# Altium footprint library LS1C300B_176A_Msystem.PcbLib: 22 footprints (part 1 of 2)
Each footprint in its own frame and in the unit in brackets; x right, y up, seen from the top. Pads: shape width x height; smd on the part's side, far side on the other; paste and mask are expansions set on the pad; w line width, h text height; cw(c..) or ccw(c..) is an arc to the next point about the centre after c.
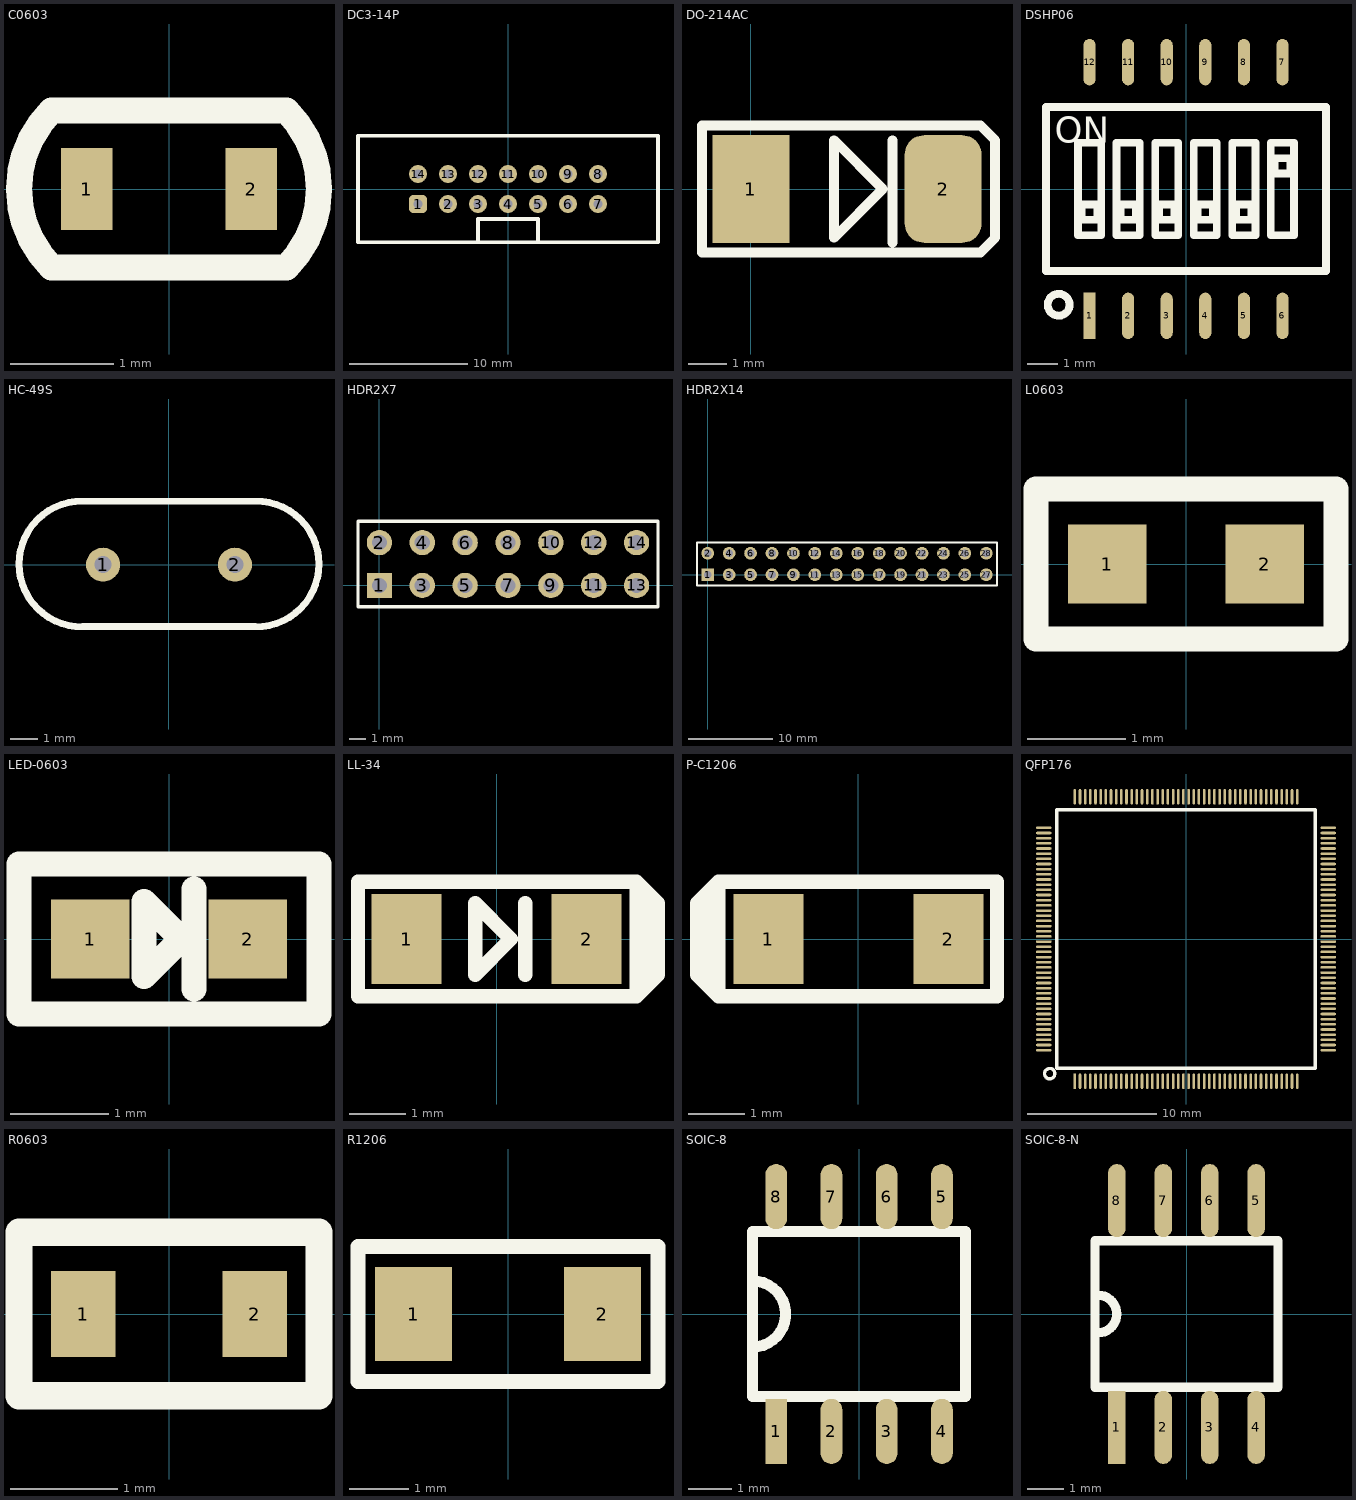
[diagram p0: the footprints below, top view; thin cyan lines are the x and y axes]

## C0603 [mm] "长1.6mm，宽0.8mm，高0.5mm"
height 0.5
pads (2):
  rect 0.5x0.8 smd: 1(-0.8,0) 2(0.8,0)
Top Overlay:
  lines w0.254: -1.143,-0.762 cw(c-0.381,0) -1.143,0.762 1.143,0.762 cw(c0.381,0) 1.143,-0.762 -1.143,-0.762
3D body: height 0.5, standoff 0, extent 0.508,-0.381 0.762,0.381
3D body: height 0.5, standoff 0, extent -0.762,-0.381 -0.508,0.381
3D body: height 0.5, standoff 0.01, extent -0.508,-0.381 0.508,0.381

## DC3-14P [mil]
pads (14):
  rrect50% 60x60 hole 30: 1(-300,-50)
  round 60 hole 30: 2(-200,-50) 3(-100,-50) 4(0,-50) 5(100,-50) 6(200,-50) 7(300,-50) 8(300,50) 9(200,50) 10(100,50) 11(0,50) 12(-100,50) 13(-200,50) 14(-300,50)
Top Overlay:
  lines w11.81: -100,-177.17 -100,-100 100,-100 100,-177.17 ; -500,-177.17 500,-177.17 500,177.17 -500,177.17 -500,-177.17
3D body: height 300, standoff -150, extent -310,-60 -290,-40
3D body: height 300, standoff -150, extent -210,-60 -190,-40
3D body: height 300, standoff -150, extent -110,-60 -90,-40
3D body: height 300, standoff -150, extent -10,-60 10,-40
3D body: height 300, standoff -150, extent 90,-60 110,-40
3D body: height 300, standoff -150, extent 190,-60 210,-40
3D body: height 300, standoff -150, extent 290,-60 310,-40
3D body: height 300, standoff -150, extent 290,40 310,60
3D body: height 300, standoff -150, extent 190,40 210,60
3D body: height 300, standoff -150, extent 90,40 110,60
3D body: height 300, standoff -150, extent -10,40 10,60
3D body: height 300, standoff -150, extent -110,40 -90,60
3D body: height 300, standoff -150, extent -210,40 -190,60
3D body: height 300, standoff -150, extent -310,40 -290,60
3D body: height 118.11, standoff 39.37, extent -100,-175 100,-150
3D body: height 354.33, standoff 39.37, extent -475,-175 -100,-150
3D body: height 354.33, standoff 39.37, extent 100,-175 475,-150
3D body: height 354.33, standoff 39.37, extent 475,-175 500,150
3D body: height 354.33, standoff 39.37, extent -500,-175 -475,150
3D body: height 354.33, standoff 39.37, extent -500,150 500,175
3D body: height 39.37, standoff 3.94, extent -500,-175 500,175

## DO-214AC [mm] "长5.2mm，宽2.9mm，高2.4mm"
height 2.4
pads (2):
  rect 2x2.8 smd: 1(0,0)
  rrect50% 2x2.8 smd: 2(5,0)
Top Overlay:
  lines w0.254: 3.683,-1.397 3.683,1.27 ; -1.27,-1.651 -1.27,1.651 5.969,1.651 6.35,1.27 6.35,-1.27 5.969,-1.651 -1.27,-1.651 ; 2.159,-1.27 3.429,0 2.159,1.27 2.159,-1.27
3D body: height 2, standoff 0, extent 5.017,-0.889 5.144,0.889
3D body: height 0.4, standoff 0, extent 3.937,-0.889 5.144,0.889
3D body: height 0.4, standoff 0, extent -0.127,-0.889 1.016,0.889
3D body: height 2, standoff 0, extent -0.127,-0.889 0,0.889
3D body: height 2.4, standoff 0.2, extent 0,-1.397 5.08,1.397
3D body: height 2.41, standoff 2.4, extent 3.556,-1.27 3.81,1.27

## DSHP06 [mm] "BODY  9.22*5.4mm  引脚 9.22*8.35mm，脚间距1.27mm"
height 2.3
pads (12):
  rect 0.4x1.524 smd: 1(-3.175,-4.175)
  oval 0.4x1.524 smd: 2(-1.905,-4.175) 3(-0.635,-4.175) 4(0.635,-4.175) 5(1.905,-4.175) 6(3.175,-4.175) 7(3.175,4.175) 8(1.905,4.175) 9(0.635,4.175) 10(-0.635,4.175) 11(-1.905,4.175) 12(-3.175,4.175)
Top Overlay:
  circle w0.254: c-4.191,-3.81 r0.359
  lines w0.254: -4.61,-2.7 -4.61,2.7 4.61,2.7 4.61,-2.7 -4.61,-2.7 ; -3.556,-1.524 -2.794,-1.524 -2.794,1.524 -3.556,1.524 -3.556,-1.524 ; -3.429,-1.016 -3.429,-0.508 -2.921,-0.508 -2.921,-1.016 -3.429,-1.016 ; -2.286,-1.524 -1.524,-1.524 -1.524,1.524 -2.286,1.524 -2.286,-1.524 ; -2.159,-1.016 -2.159,-0.508 -1.651,-0.508 -1.651,-1.016 -2.159,-1.016 ; -1.016,-1.524 -0.254,-1.524 -0.254,1.524 -1.016,1.524 -1.016,-1.524 ; -0.889,-1.016 -0.889,-0.508 -0.381,-0.508 -0.381,-1.016 -0.889,-1.016 ; 0.254,-1.524 1.016,-1.524 1.016,1.524 0.254,1.524 0.254,-1.524 ; 0.381,-1.016 0.381,-0.508 0.889,-0.508 0.889,-1.016 0.381,-1.016 ; 1.524,-1.524 2.286,-1.524 2.286,1.524 1.524,1.524 1.524,-1.524 ; 1.651,-1.016 1.651,-0.508 2.159,-0.508 2.159,-1.016 1.651,-1.016 ; 2.794,-1.524 2.794,1.524 3.556,1.524 3.556,-1.524 2.794,-1.524 ; 2.921,0.508 3.429,0.508 3.429,1.016 2.921,1.016 2.921,0.508
  text "ON" at -4.318,1.524 h0.85
3D body: height 2.3, standoff 1, extent 2.921,0.508 3.429,1.016
3D body: height 2.3, standoff 1, extent 1.651,-1.016 2.159,-0.508
3D body: height 2.3, standoff 1, extent 0.381,-1.016 0.889,-0.508
3D body: height 2.3, standoff 1, extent -0.889,-1.016 -0.381,-0.508
3D body: height 2.3, standoff 1, extent -2.159,-1.016 -1.651,-0.508
3D body: height 2.3, standoff 1, extent -3.429,-1.016 -2.921,-0.508
3D body: height 1.3, standoff 1, extent 2.794,-1.524 3.556,1.524
3D body: height 1.3, standoff 1, extent 1.524,-1.524 2.286,1.524
3D body: height 1.3, standoff 1, extent 0.254,-1.524 1.016,1.524
3D body: height 1.3, standoff 1, extent -1.016,-1.524 -0.254,1.524
3D body: height 1.3, standoff 1, extent -2.286,-1.524 -1.524,1.524
3D body: height 1.3, standoff 1, extent -3.556,-1.524 -2.794,1.524
3D body: height 2.3, standoff 1, extent 2.286,-1.524 2.794,1.524
3D body: height 2.3, standoff 1, extent 1.016,-1.524 1.524,1.524
3D body: height 2.3, standoff 1, extent -0.254,-1.524 0.254,1.524
3D body: height 2.3, standoff 1, extent -1.524,-1.524 -1.016,1.524
3D body: height 2.3, standoff 1, extent -2.794,-1.524 -2.286,1.524
3D body: height 2.3, standoff 1, extent 3.556,-2.667 4.572,2.667
3D body: height 2.3, standoff 1, extent -4.572,-2.667 -3.556,2.667
3D body: height 2.3, standoff 1, extent -4.572,-2.667 4.572,-1.524
3D body: height 2.3, standoff 1, extent -4.572,1.524 4.572,2.667
3D body: height 1, standoff 0.1, extent -4.572,-2.667 4.572,2.667

## HC-49S [mm] "高壳体积为10.5*4.5*3.5mm 矮壳体积10.5*5*.0*2.5mm"
height 3.5
pads (2):
  round 1.26 hole 0.63: 1(-2.44,0) 2(2.44,0)
Top Overlay:
  lines w0.254: -3.2,-2.286 3.2,-2.286 ; -3.199,-2.3 cw(c-3.227,0.025) -3.2,2.35 3.2,2.35 cw(c3.227,0.025) 3.201,-2.3
3D body: height 1, standoff -3, extent 2.142,-0.299 2.74,0.3
3D body: height 1, standoff -3, extent -2.738,-0.299 -2.14,0.299
3D body: height 3.5, standoff 0, extent -3.175,-2.286 3.175,2.286
3D body: height 3.5, standoff 0, extent -5.602,-2.173 -1.002,2.427
3D body: height 3.5, standoff 0, extent 1.002,-2.3 5.602,2.3

## HDR2X7 [mm] "Connector; Header; 7x2 Position"
pads (14):
  rect 1.5x1.5 hole 0.9: 1(0,0)
  round 1.5 hole 0.9: 2(0,2.54) 3(2.54,0) 4(2.54,2.54) 5(5.08,0) 6(5.08,2.54) 7(7.62,0) 8(7.62,2.54) 9(10.16,0) 10(10.16,2.54) 11(12.7,0) 12(12.7,2.54) 13(15.24,0) 14(15.24,2.54)
Top Overlay:
  lines w0.2: -1.27,-1.27 -1.27,3.81 16.51,3.81 16.51,-1.27 -1.27,-1.27

## HDR2X14 [mm] "Connector; Header; 14x2 Position"
pads (28):
  rect 1.5x1.5 hole 0.9: 1(0,0)
  round 1.5 hole 0.9: 2(0,2.54) 3(2.54,0) 4(2.54,2.54) 5(5.08,0) 6(5.08,2.54) 7(7.62,0) 8(7.62,2.54) 9(10.16,0) 10(10.16,2.54) 11(12.7,0) 12(12.7,2.54) 13(15.24,0) 14(15.24,2.54) 15(17.78,0) 16(17.78,2.54) 17(20.32,0) 18(20.32,2.54) 19(22.86,0) 20(22.86,2.54) 21(25.4,0) 22(25.4,2.54) 23(27.94,0) 24(27.94,2.54) 25(30.48,0) 26(30.48,2.54) 27(33.02,0) 28(33.02,2.54)
Top Overlay:
  lines w0.2: -1.27,-1.27 -1.27,3.81 34.29,3.81 34.29,-1.27 -1.27,-1.27

## L0603 [mm] "长1.6mm，宽0.8mm，高0.5mm"
height 0.5
pads (2):
  rect 0.8x0.8 smd: 1(-0.8,0) 2(0.8,0)
Top Overlay:
  lines w0.254: -1.524,-0.762 1.524,-0.762 1.524,0.762 -1.524,0.762 -1.524,-0.762
3D body: height 0.5, standoff 0.01, extent -0.508,-0.381 0.508,0.381
3D body: height 0.5, standoff 0, extent -0.762,-0.381 -0.508,0.381
3D body: height 0.5, standoff 0, extent 0.508,-0.381 0.762,0.381

## LED-0603 [mm] "长1.6mm，宽0.8mm，高0.5mm"
height 0.5
pads (2):
  rect 0.8x0.8 smd: 1(-0.8,0) 2(0.8,0)
Top Overlay:
  lines w0.254: 0.254,-0.508 0.254,0.508 ; -1.524,-0.762 1.524,-0.762 1.524,0.762 -1.524,0.762 -1.524,-0.762 ; -0.254,-0.381 -0.254,0.381 0.127,0 -0.254,-0.381
3D body: height 0.5, standoff 0, extent 0.508,-0.381 0.762,0.381
3D body: height 0.5, standoff 0, extent -0.762,-0.381 -0.508,0.381
3D body: height 0.5, standoff 0.01, extent -0.508,-0.381 0.508,0.381

## LL-34 [mm] "长3.4mm，宽1.35mm，高1.35mm"
height 1.35
pads (2):
  rect 1.25x1.6 smd: 1(-1.6,0) 2(1.6,0)
Top Overlay:
  lines w0.254: 0.508,-0.635 0.508,0.635 ; 2.679,-0.826 2.679,0.826 ; 2.489,-1.016 2.489,1.016 ; 2.489,-1.016 2.87,-0.635 2.87,0.635 2.489,1.016 ; 2.489,-1.016 -1.956,-1.016 -2.464,-1.016 -2.464,1.016 2.489,1.016 ; -0.381,-0.635 0.254,0 -0.381,0.635 -0.381,-0.635
3D body: height 1.34, standoff 0.05, extent -1.4,-0.662 1.4,0.635
3D body: height 1.39, standoff 0, extent -1.651,-0.699 -1.351,0.699
3D body: height 1.39, standoff 0, extent 1.351,-0.699 1.651,0.699
3D body: height 1.39, standoff 0, extent 1.051,-0.699 1.351,0.699

## P-C1206 [mm] "长3.2mm，宽1.6mm，高1.6mm"
height 1.6
pads (2):
  rect 1.25x1.6 smd: 1(-1.6,0) 2(1.6,0)
Top Overlay:
  lines w0.254: -2.679,-0.826 -2.679,0.826 ; -2.489,-1.016 2.464,-1.016 2.464,1.016 1.956,1.016 -2.489,1.016 ; -2.489,-1.016 -2.87,-0.635 -2.87,0.635 -2.489,1.016 ; -2.489,-1.016 -2.489,1.016
3D body: height 2, standoff 0, extent -1.651,-0.762 1.651,0.762

## QFP176 [mm] "body长宽20mm，引脚长宽22mm,脚间距0.4mm"
height 1.6
pads (176):
  rect 0.2x1.2 smd: 1(-8.6,-11)
  oval 0.2x1.2 smd: 2(-8.2,-11) 3(-7.8,-11) 4(-7.4,-11) 5(-7,-11) 6(-6.6,-11) 7(-6.2,-11) 8(-5.8,-11) 9(-5.4,-11) 10(-5,-11) 11(-4.6,-11) 12(-4.2,-11) 13(-3.8,-11) 14(-3.4,-11) 15(-3,-11) 16(-2.6,-11) 17(-2.2,-11) 18(-1.8,-11) 19(-1.4,-11) 20(-1,-11) 21(-0.6,-11) 22(-0.2,-11) 23(0.2,-11) 24(0.6,-11) 25(1,-11) 26(1.4,-11) 27(1.8,-11) 28(2.2,-11) 29(2.6,-11) 30(3,-11) 31(3.4,-11) 32(3.8,-11) 33(4.2,-11) 34(4.6,-11) 35(5,-11) 36(5.4,-11) 37(5.8,-11) 38(6.2,-11) 39(6.6,-11) 40(7,-11) 41(7.4,-11) 42(7.8,-11) 43(8.2,-11) 44(8.6,-11) 89(8.6,11) 90(8.2,11) 91(7.8,11) 92(7.4,11) 93(7,11) 94(6.6,11) 95(6.2,11) 96(5.8,11) 97(5.4,11) 98(5,11) 99(4.6,11) 100(4.2,11) 101(3.8,11) 102(3.4,11) 103(3,11) 104(2.6,11) 105(2.2,11) 106(1.8,11) 107(1.4,11) 108(1,11) 109(0.6,11) 110(0.2,11) 111(-0.2,11) 112(-0.6,11) 113(-1,11) 114(-1.4,11) 115(-1.8,11) 116(-2.2,11) 117(-2.6,11) 118(-3,11) 119(-3.4,11) 120(-3.8,11) 121(-4.2,11) 122(-4.6,11) 123(-5,11) 124(-5.4,11) 125(-5.8,11) 126(-6.2,11) 127(-6.6,11) 128(-7,11) 129(-7.4,11) 130(-7.8,11) 131(-8.2,11) 132(-8.6,11)
  oval 1.2x0.2 smd: 45(11,-8.6) 46(11,-8.2) 47(11,-7.8) 48(11,-7.4) 49(11,-7) 50(11,-6.6) 51(11,-6.2) 52(11,-5.8) 53(11,-5.4) 54(11,-5) 55(11,-4.6) 56(11,-4.2) 57(11,-3.8) 58(11,-3.4) 59(11,-3) 60(11,-2.6) 61(11,-2.2) 62(11,-1.8) 63(11,-1.4) 64(11,-1) 65(11,-0.6) 66(11,-0.2) 67(11,0.2) 68(11,0.6) 69(11,1) 70(11,1.4) 71(11,1.8) 72(11,2.2) 73(11,2.6) 74(11,3) 75(11,3.4) 76(11,3.8) 77(11,4.2) 78(11,4.6) 79(11,5) 80(11,5.4) 81(11,5.8) 82(11,6.2) 83(11,6.6) 84(11,7) 85(11,7.4) 86(11,7.8) 87(11,8.2) 88(11,8.6) 133(-11,8.6) 134(-11,8.2) 135(-11,7.8) 136(-11,7.4) 137(-11,7) 138(-11,6.6) 139(-11,6.2) 140(-11,5.8) 141(-11,5.4) 142(-11,5) 143(-11,4.6) 144(-11,4.2) 145(-11,3.8) 146(-11,3.4) 147(-11,3) 148(-11,2.6) 149(-11,2.2) 150(-11,1.8) 151(-11,1.4) 152(-11,1) 153(-11,0.6) 154(-11,0.2) 155(-11,-0.2) 156(-11,-0.6) 157(-11,-1) 158(-11,-1.4) 159(-11,-1.8) 160(-11,-2.2) 161(-11,-2.6) 162(-11,-3) 163(-11,-3.4) 164(-11,-3.8) 165(-11,-4.2) 166(-11,-4.6) 167(-11,-5) 168(-11,-5.4) 169(-11,-5.8) 170(-11,-6.2) 171(-11,-6.6) 172(-11,-7) 173(-11,-7.4) 174(-11,-7.8) 175(-11,-8.2) 176(-11,-8.6)
Top Overlay:
  circle w0.254: c-10.541,-10.414 r0.402
  lines w0.254: -10,-10 -10,10 10,10 10,-10 -10,-10
3D body: height 1.6, standoff 0.1, extent -10.033,-10.033 10.033,10.033

## R0603 [mm] "长1.6mm，宽0.8mm，高0.5mm"
height 0.5
pads (2):
  rect 0.6x0.8 smd: 1(-0.8,0) 2(0.8,0)
Top Overlay:
  lines w0.254: -1.397,-0.762 -1.397,0.762 1.397,0.762 1.397,-0.762 -1.397,-0.762
3D body: height 0.5, standoff 0.01, extent -0.508,-0.381 0.508,0.381
3D body: height 0.5, standoff 0, extent -0.762,-0.381 -0.508,0.381
3D body: height 0.5, standoff 0, extent 0.508,-0.381 0.762,0.381

## R1206 [mm] "长3.2mm，宽1.6mm，高1mm"
height 1
pads (2):
  rect 1.3x1.6 smd: 1(-1.6,0) 2(1.6,0)
Top Overlay:
  lines w0.254: -2.54,-1.143 2.54,-1.143 2.54,1.143 -2.54,1.143 -2.54,-1.143
3D body: height 1, standoff 0, extent 1.016,-0.762 1.651,0.762
3D body: height 1, standoff 0, extent -1.524,-0.762 -0.889,0.762
3D body: height 1, standoff 0.01, extent -0.889,-0.762 1.016,0.762

## SOIC-8 [mm] "长4.9mm,宽5.4mm,高2mm"
height 2
pads (8):
  rect 0.5x1.5 smd: 1(-1.905,-2.7)
  oval 0.5x1.5 smd: 2(-0.635,-2.7) 3(0.635,-2.7) 4(1.905,-2.7) 5(1.905,2.7) 6(0.635,2.7) 7(-0.635,2.7) 8(-1.905,2.7)
Top Overlay:
  lines w0.254: -2.45,-0.76 ccw(c-2.45,0) -2.45,0.76 ; -2.45,-1.9 -2.45,1.9 2.45,1.9 2.45,-1.9 -2.45,-1.9
3D body: height 1, standoff 0.2, extent -2.159,1.778 -1.651,2.667
3D body: height 1, standoff 0.2, extent -0.889,1.778 -0.381,2.667
3D body: height 1, standoff 0.2, extent 0.381,1.778 0.889,2.667
3D body: height 1, standoff 0.2, extent 1.651,1.778 2.159,2.667
3D body: height 1, standoff 0.2, extent 1.651,-2.794 2.159,-1.905
3D body: height 1, standoff 0.2, extent 0.381,-2.794 0.889,-1.905
3D body: height 1, standoff 0.2, extent -0.889,-2.794 -0.381,-1.905
3D body: height 1, standoff 0.2, extent -2.159,-2.794 -1.651,-1.905
3D body: height 2, standoff 0.2, extent -2.54,-1.905 2.54,1.905

## SOIC-8-N [mm] "长5mm，宽6.2mm，高1.75mm，脚间距1.27mm"
height 1.27
pads (8):
  rect 0.48x2 smd: 1(-1.905,-3.1)
  oval 0.48x2 smd: 2(-0.635,-3.1) 3(0.635,-3.1) 4(1.905,-3.1) 5(1.905,3.1) 6(0.635,3.1) 7(-0.635,3.1) 8(-1.905,3.1)
Top Overlay:
  lines w0.254: -2.5,-0.508 ccw(c-2.419,0) -2.5,0.508 ; -2.5,-2 -2.5,2 2.5,2 2.5,-2 -2.5,-2
3D body: height 1, standoff 0.2, extent -2.159,-3.175 -1.651,-2.032
3D body: height 1, standoff 0.2, extent -0.889,-3.175 -0.381,-2.032
3D body: height 1, standoff 0.2, extent 0.381,-3.175 0.889,-2.032
3D body: height 1, standoff 0.2, extent 1.651,-3.175 2.159,-2.032
3D body: height 1, standoff 0.2, extent 1.651,2.032 2.159,3.175
3D body: height 1, standoff 0.2, extent 0.381,2.032 0.889,3.175
3D body: height 1, standoff 0.2, extent -0.889,2.032 -0.381,3.175
3D body: height 1, standoff 0.2, extent -2.159,2.032 -1.651,3.175
3D body: height 1.27, standoff 0.2, extent -2.54,-2.032 2.54,2.032